# EAGLE library part ZM1000 (library nixietubes-western)
Cold cathode, neon filled, side viewing indicator tubes with long life expectancy. The ZM1000R is coated with a red filter to improve the contrast of display. These tubes incorporate a decimal point and are fitted with a pin base to suid the standard grid (2.54mm). A primer allows ionisation without delay in strobe type or blanking applications. Numeral height: 14 mm Minimum distance between mounting centres: 19 mm Numerals: 1 2 3 4 5 6 7 8 9 0 Decimal point: to the left of the numerals Cathode current, average: 2.5 mA, maximum peak: 12mA Minimum supply voltage: 170 V
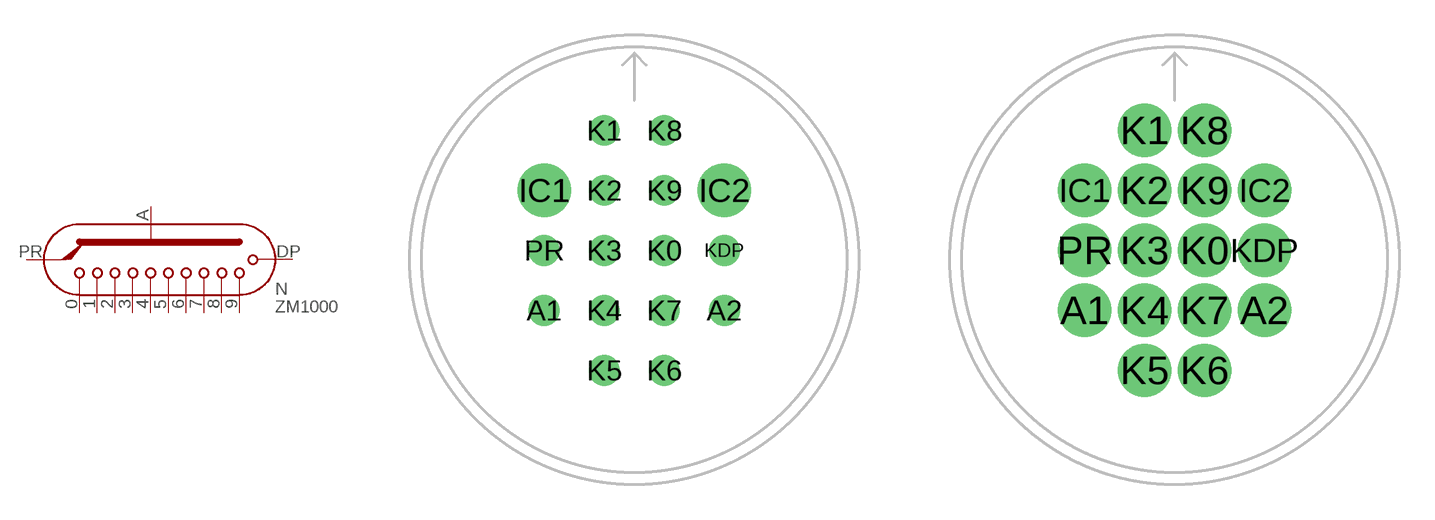
[diagram p1: symbol with the pads of ZM1000; footprints ZM1000, ZM1000-SOCKETED]

Designator prefix N

## ZM1000  [ZM1000]
A1  A
A2  A
K0  0
K1  1
K2  2
K3  3
K4  4
K5  5
K6  6
K7  7
K8  8
K9  9
KDP  DP
PR  PR

## ZM1000-SOCKETED  [ZM1000-SOCKETED]
Pads as for ZM1000

## Footprint ZM1000 (pad centres in mm)
This is the footprint suitable for the following nixie tubes: * ZM1000 * ZM1000R Tube diameter: 19mm Height from PCB: 42.5mm
drill 0.8: A1 -3.81,-2.14; A2 3.81,-2.14; K0 1.27,0.4; K1 -1.27,5.48; K2 -1.27,2.94; K3 -1.27,0.4; K4 -1.27,-2.14; K5 -1.27,-4.68; K6 1.27,-4.68; K7 1.27,-2.14; K8 1.27,5.48; K9 1.27,2.94; KDP 3.81,0.4; PR -3.81,0.4
drill 1.5 pad 1.8: IC1 -3.81,2.94; IC2 3.81,2.94

## Footprint ZM1000-SOCKETED (pad centres in mm)
This is the footprint suitable for the following nixie tubes with sockets: * ZM1000 * ZM1000R Tube diameter: 19mm Height from PCB: 42.5mm
drill 1.5 pad 1.8: A1 -3.81,-2.14; A2 3.81,-2.14; IC1 -3.81,2.94; IC2 3.81,2.94; K0 1.27,0.4; K1 -1.27,5.48; K2 -1.27,2.94; K3 -1.27,0.4; K4 -1.27,-2.14; K5 -1.27,-4.68; K6 1.27,-4.68; K7 1.27,-2.14; K8 1.27,5.48; K9 1.27,2.94; KDP 3.81,0.4; PR -3.81,0.4